# Altium schematic symbol library gps&gsm.SchLib: 3 symbols
Pins are listed as number, name and electrical type; pins without a type are passive.

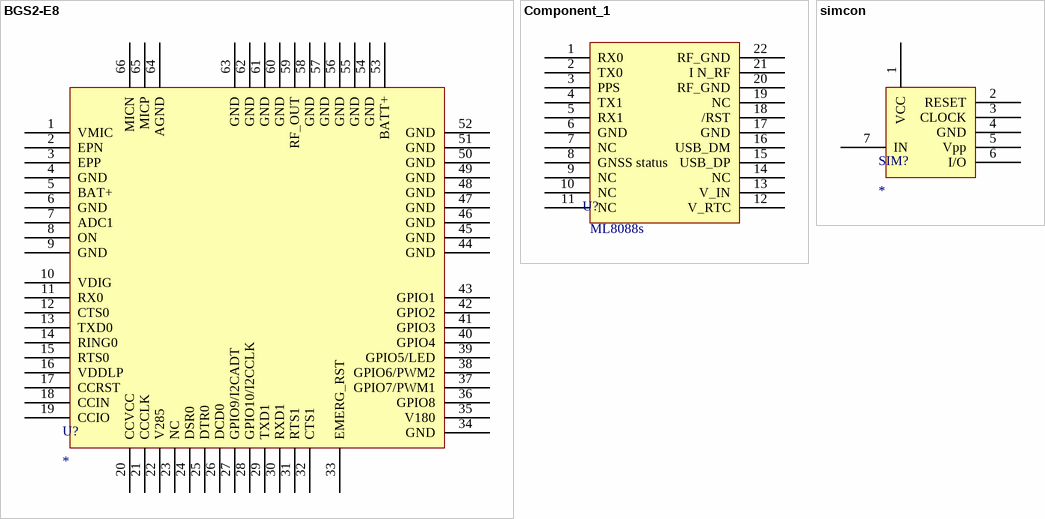
[diagram p0: symbols BGS2-E8 to simcon]

## BGS2-E8
designator U?
footprint Quad66
pins: 1 VMIC, 2 EPN, 3 EPP, 4 GND, 5 BAT+, 6 GND, 7 ADC1, 8 ON, 9 GND, 10 VDIG, 11 RX0, 12 CTS0, 13 TXD0, 14 RING0, 15 RTS0, 16 VDDLP, 17 CCRST, 18 CCIN, 19 CCIO, 20 CCVCC, 21 CCCLK, 22 V285, 23 NC, 24 DSR0, 25 DTR0, 26 DCD0, 27 GPIO9/I2CADT, 28 GPIO10/I2CCLK, 29 TXD1, 30 RXD1, 31 RTS1, 32 CTS1, 33 EMERG_RST, 34 GND, 35 V180, 36 GPIO8, 37 GPIO7/PWM1, 38 GPIO6/PWM2, 39 GPIO5/LED, 40 GPIO4, 41 GPIO3, 42 GPIO2, 43 GPIO1, 44 GND, 45 GND, 46 GND, 47 GND, 48 GND, 49 GND, 50 GND, 51 GND, 52 GND, 53 BATT+, 54 GND, 55 GND, 56 GND, 57 GND, 58 GND, 59 RF_OUT, 60 GND, 61 GND, 62 GND, 63 GND, 64 AGND, 65 MICP, 66 MICN

## Component_1
designator U?  (value not drawn)
footprint ML8088s - duplicate
pins: 1 RX0, 2 TX0, 3 PPS, 4 TX1, 5 RX1, 6 GND, 7 NC, 8 GNSS status, 9 NC, 10 NC, 11 NC, 12 V_RTC, 13 V_IN, 14 NC, 15 USB_DP, 16 USB_DM, 17 GND, 18 /RST, 19 NC, 20 RF_GND, 21 I N_RF, 22 RF_GND
text: ML8088s

## simcon
designator SIM?
pins: 1 VCC, 2 RESET, 3 CLOCK, 4 GND, 5 Vpp, 6 I/O, 7 IN